# Altium schematic symbol library TDD01H0SB1R.SchLib: 1 symbol
Pins are listed as number, name and electrical type; pins without a type are passive.

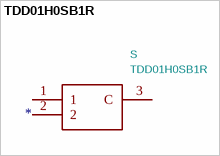
[diagram p0: symbol TDD01H0SB1R]

## TDD01H0SB1R
designator S  value TDD01H0SB1R
DIP Switches / SIP Switches Jumper Switch 2 positions; Manufacturer_Name: C & K COMPONENTS; Footprint: SOT175P420X230-3N; Supplier: https://componentsearchengine.com/Datasheets/1/TDD01H0SB1R.pdf; Description_: DIP Switches / SIP Switches Jumper Switch 2 positions; Height: 2.3; Manufacturer_Part_Number: TDD01H0SB1R; Mouser Part Number: 611-TDD01H0SB1R; Mouser Price/Stock: https://www.mouser.com/Search/Refine.aspx?Keyword=611-TDD01H0SB1R
footprint SOT175P420X230-3N
pins: 1, 2, 3 C